# Altium footprint library 无刷电调_CH32V203_V1.0.0.PcbLib: 19 footprints (part 1 of 2)
Each footprint in its own frame and in the unit in brackets; x right, y up, seen from the top. Pads: shape width x height; smd on the part's side, far side on the other; paste and mask are expansions set on the pad; w line width, h text height; cw(c..) or ccw(c..) is an arc to the next point about the centre after c.
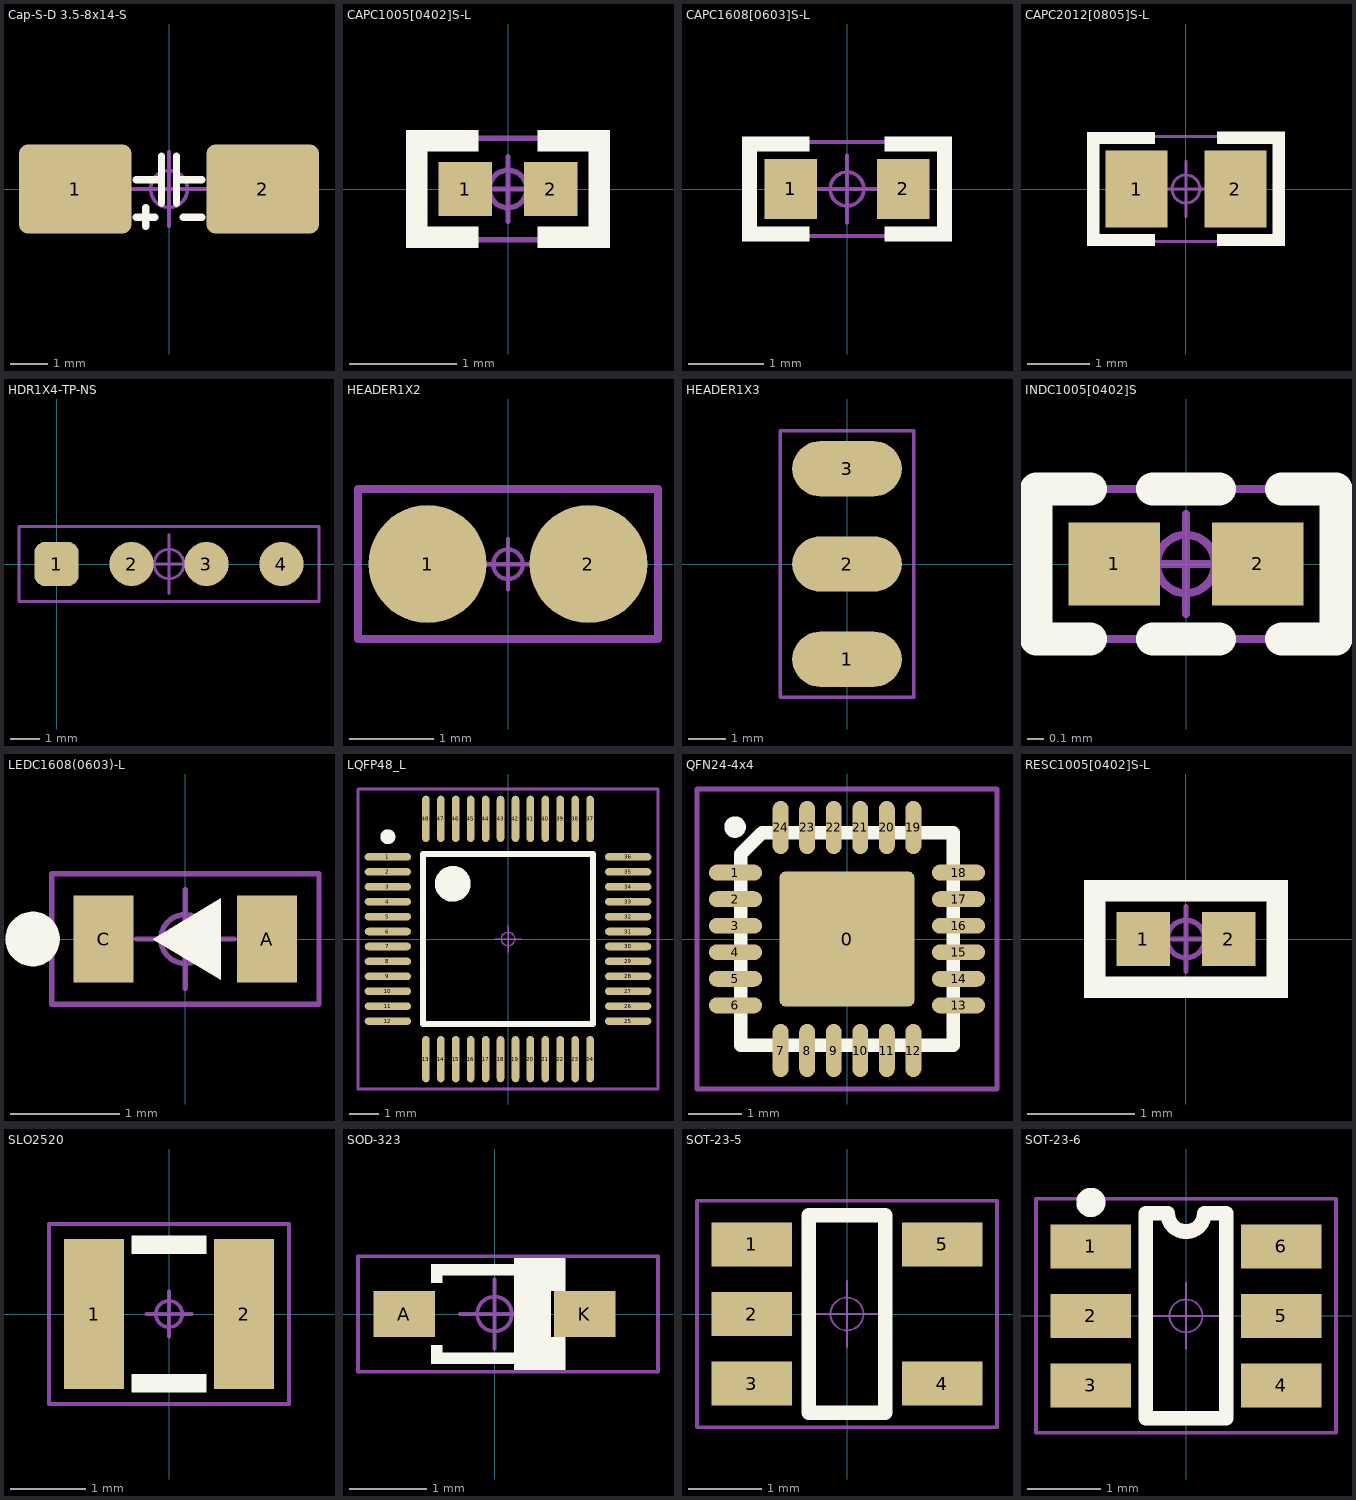
[diagram p0: the footprints below, top view; thin cyan lines are the x and y axes]

## Cap-S-D 3.5-8x14-S [mil] "固态直插 3.5mm间距 8x14mm 侧着焊在板边"
height 62.99
pads (2):
  rrect20% 120x95 smd mask+1: 1(-100,0) 2(100,0)
Top Overlay:
  lines w7.87: -35,-30 -15,-30 ; -35,10 -8,10 ; -25,-40 -25,-20 ; -8,-15 -8,35 ; 8,-15 8,35 ; 8,10 35,10 ; 15,-30 35,-30
Top Designator:
  text ".Designator" at -88.63,-8.9 h39.37
Top Component Center:
  circle w3.94: c0,0 r19.68
  lines w3.94: -39.37,0 39.37,0 ; 0,-39.37 0,39.37

## CAPC1005[0402]S-L [mm] "0402贴片电容 有丝印 2脚 1.00x0.50mm IPC高密度"
height 0.6
pads (2):
  rect 0.5x0.5 smd: 1(-0.4,0) 2(0.4,0)
Top Overlay:
  rectangle: -0.95,-0.55 -0.275,-0.35
  region: 0.95,-0.55 0.95,0.55 0.75,0.55 0.75,-0.55
  region: 0.95,0.55 0.275,0.55 0.275,0.35 0.95,0.35
  region: 0.95,-0.35 0.275,-0.35 0.275,-0.55 0.95,-0.55
  region: -0.95,0.55 -0.95,-0.55 -0.75,-0.55 -0.75,0.55
  rectangle: -0.95,0.35 -0.275,0.55
Top Designator:
  text ".Designator" at -2.251,-0.226 h1
Top Component Outline:
  rectangle: -0.9,-0.5 -0.85,0.5
  region: 0.9,0.45 0.9,0.5 -0.9,0.5 -0.9,0.45
  region: 0.9,0.5 0.85,0.5 0.85,-0.5 0.9,-0.5
  region: -0.9,-0.45 -0.9,-0.5 0.9,-0.5 0.9,-0.45
Top Component Center:
  circle w0.05: c0,0 r0.175
  lines w0.05: -0.3,0 0.3,0 ; 0,-0.3 0,0.3
3D body "Capacitor 0402.SLDPRT": height 0.5, standoff 0, extent -0.5,-0.25 0.5,0.25

## CAPC1608[0603]S-L [mm] "0603贴片电容 有丝印 2脚 1.60x0.80mm IPC高密度"
height 0.85
pads (2):
  rect 0.7x0.8 smd: 1(-0.75,0) 2(0.75,0)
Top Overlay:
  rectangle: -1.4,0.5 -0.5,0.7
  region: -1.4,0.7 -1.4,-0.7 -1.2,-0.7 -1.2,0.7
  rectangle: -1.4,-0.7 -0.5,-0.5
  region: 1.4,-0.5 0.5,-0.5 0.5,-0.7 1.4,-0.7
  region: 1.4,-0.7 1.4,0.7 1.2,0.7 1.2,-0.7
  region: 1.4,0.7 0.5,0.7 0.5,0.5 1.4,0.5
Top Designator:
  text ".Designator" at 2.251,0.226 h1
Top Component Outline:
  rectangle: -1.35,-0.65 -1.3,0.65
  region: 1.35,0.6 1.35,0.65 -1.35,0.65 -1.35,0.6
  region: 1.35,0.65 1.3,0.65 1.3,-0.65 1.35,-0.65
  region: -1.35,-0.6 -1.35,-0.65 1.35,-0.65 1.35,-0.6
Top Component Center:
  circle w0.05: c0,0 r0.225
  lines w0.05: -0.45,0 0.45,0 ; 0,-0.45 0,0.45
3D body: height 0.79, standoff 0, extent -0.8,-0.406 -0.45,0.406
3D body: height 0.79, standoff 0, extent 0.45,-0.406 0.8,0.407
3D body: height 0.79, standoff 0, extent -0.45,-0.406 0.45,0.406

## CAPC2012[0805]S-L [mm] "0805贴片电容 有丝印 2脚 2.00x1.20mm IPC高密度"
height 1.1
pads (2):
  rect 1x1.25 smd: 1(-0.8,0) 2(0.8,0)
Top Overlay:
  region: 1.6,-0.725 0.5,-0.725 0.5,-0.925 1.6,-0.925
  region: 1.6,-0.925 1.6,0.925 1.4,0.925 1.4,-0.925
  region: 1.6,0.927 0.5,0.927 0.5,0.727 1.6,0.727
  rectangle: -1.6,0.725 -0.5,0.925
  region: -1.6,0.925 -1.6,-0.925 -1.4,-0.925 -1.4,0.925
  rectangle: -1.6,-0.925 -0.5,-0.725
Top Designator:
  text ".Designator" at -2.251,-0.226 h1
Top Component Outline:
  rectangle: -1.55,-0.875 -1.5,0.875
  region: 1.55,0.825 1.55,0.875 -1.55,0.875 -1.55,0.825
  region: 1.55,0.875 1.5,0.875 1.5,-0.875 1.55,-0.875
  region: -1.55,-0.825 -1.55,-0.875 1.55,-0.875 1.55,-0.825
Top Component Center:
  circle w0.05: c0,0 r0.225
  lines w0.05: -0.45,0 0.45,0 ; 0,-0.45 0,0.45
3D body "capacitor_rnd1500805b106k6r3.stp": height 1.25, standoff 0, extent -1,-0.627 1,0.623

## HDR1X4-TP-NS [mm] "2.54mm间距,表面焊盘 无丝印"
height 1.6
pads (4):
  rrect50% 1.5x1.5 smd: 1(0,0)
  round 1.5 smd: 2(2.54,0) 3(5.08,0) 4(7.62,0)
Top Designator:
  text ".Designator" at 6.061,0.226 h1
Top Component Outline:
  lines w0.1: -1.27,-1.27 8.89,-1.27 8.89,1.27 -1.27,1.27 -1.27,-1.27
Top Component Center:
  circle w0.1: c3.81,0 r0.5
  lines w0.1: 2.81,0 4.81,0 ; 3.81,-1 3.81,1

## HEADER1X2 [mil] "贴片焊盘"
height 62.99
pads (2):
  round 55 smd: 1(-37.5,0) 2(37.5,0)
Top Designator:
  text ".Designator" at -88.74,-8.9 h39.37
Top Component Outline:
  lines w3.94: -70,-35 -70,35 70,35 70,-35 -70,-35
Top Component Center:
  circle w1.97: c0,-0.11 r6.89
  lines w1.97: -11.81,-0.11 11.81,-0.11 ; 0,-11.92 0,11.7

## HEADER1X3 [mil] "表贴焊盘 2.54mm"
pads (3):
  oval 115x58 smd: 1(0,-100) 2(0,0) 3(0,100)
Top Designator:
  text ".Designator" at 88.63,8.9 h39.37
Top Component Outline:
  lines w3.94: -70,-140 70,-140 70,140 -70,140 -70,-140
Top Component Center:
  circle w1.97: c0,0 r6.89
  lines w1.97: -11.81,0 11.81,0 ; 0,-11.81 0,11.81

## INDC1005[0402]S [mm] "Chip Inductor, 2-Leads, Body 1.00x0.50mm, IPC Medium Density"
height 0.6
pads (2):
  rect 0.55x0.5 smd: 1(-0.43,0) 2(0.43,0)
Top Overlay:
  lines w0.2: -0.575,-0.45 -0.9,-0.45 -0.9,0.45 -0.575,0.45 ; -0.2,-0.45 0.2,-0.45 ; -0.2,0.45 0.2,0.45 ; 0.575,-0.45 0.9,-0.45 0.9,0.45 0.575,0.45
Top Designator:
  text ".Designator" at 2.251,0.226 h1
Top Component Outline:
  lines w0.05: -0.9,-0.45 0.9,-0.45 0.9,0.45 -0.9,0.45 -0.9,-0.45
Top Component Center:
  circle w0.05: c0,0 r0.175
  lines w0.05: -0.3,0 0.3,0 ; 0,-0.3 0,0.3
3D body: height 0.49, standoff 0, extent -0.3,-0.25 0.3,0.25
3D body: height 0.5, standoff 0, extent -0.5,-0.25 -0.231,0.25
3D body: height 0.5, standoff 0, extent 0.231,-0.25 0.5,0.25

## LEDC1608(0603)-L [mm] "LED,Chip;1.60mm L X 0.80mm W X 0.80mm H"
height 0.8
pads (2):
  rect 0.55x0.8 smd: A(0.75,0) C(-0.75,0)
Top Overlay:
  circle w0.25: c-1.4,0 r0.125
  region: -0.3,0 0.325,0.375 0.325,-0.375
Top Designator:
  text ".Designator" at 2.051,0.226 h1
Top Component Outline:
  lines w0.05: -1.225,-0.6 -1.225,0.6 1.225,0.6 1.225,-0.6 -1.225,-0.6
Top Component Center:
  circle w0.05: c0,0 r0.225
  lines w0.05: -0.45,0 0.45,0 ; 0,-0.45 0,0.45
3D body: height 0.64, standoff 0, extent -0.559,-0.4 0.559,0.4
3D body "0603 (1608) LED Base (Separate Lens).STEP": height 0.64, standoff 0, extent -0.8,-0.4 0.8,0.4

## LQFP48_L [mm] "Thin QFP, 48-Leads, Body 7x7mm, Pitch 0.5mm, IPC High Density"
height 1.6
pads (48):
  oval 1.55x0.254 smd: 1(-4.025,2.75) 2(-4.025,2.25) 3(-4.025,1.75) 4(-4.025,1.25) 5(-4.025,0.75) 6(-4.025,0.25) 7(-4.025,-0.25) 8(-4.025,-0.75) 9(-4.025,-1.25) 10(-4.025,-1.75) 11(-4.025,-2.25) 12(-4.025,-2.75) 25(4.025,-2.75) 26(4.025,-2.25) 27(4.025,-1.75) 28(4.025,-1.25) 29(4.025,-0.75) 30(4.025,-0.25) 31(4.025,0.25) 32(4.025,0.75) 33(4.025,1.25) 34(4.025,1.75) 35(4.025,2.25) 36(4.025,2.75)
  oval 0.254x1.55 smd: 13(-2.75,-4.025) 14(-2.25,-4.025) 15(-1.75,-4.025) 16(-1.25,-4.025) 17(-0.75,-4.025) 18(-0.25,-4.025) 19(0.25,-4.025) 20(0.75,-4.025) 21(1.25,-4.025) 22(1.75,-4.025) 23(2.25,-4.025) 24(2.75,-4.025) 37(2.75,4.025) 38(2.25,4.025) 39(1.75,4.025) 40(1.25,4.025) 41(0.75,4.025) 42(0.25,4.025) 43(-0.25,4.025) 44(-0.75,4.025) 45(-1.25,4.025) 46(-1.75,4.025) 47(-2.25,4.025) 48(-2.75,4.025)
Top Overlay:
  circle w0.6: c-1.85,1.85 r0.3
  circle w0.25: c-4.025,3.425 r0.125
  lines w0.2: -2.85,-2.85 2.85,-2.85 2.85,2.85 -2.85,2.85 -2.85,-2.85
Top Designator:
  text ".Designator" at -2.251,-0.226 h1
Top Component Outline:
  lines w0.1: -5.025,-5.025 5.025,-5.025 5.025,5.025 -5.025,5.025 -5.025,-5.025
Top Component Center:
  circle w0.05: c0,0 r0.225
  lines w0.05: -0.45,0 0.45,0 ; 0,-0.45 0,0.45
3D body "User Library-LQFP48_Grid_0_5.STEP": height 1.6, standoff 0, extent -4.5,-4.5 4.5,4.5

## QFN24-4x4 [mm]
height 1.6
pads (25):
  rrect10% 2.55x2.55 smd: 0(0,0)
  oval 1x0.3 smd: 1(-2.1,1.25) 2(-2.1,0.75) 3(-2.1,0.25) 4(-2.1,-0.25) 5(-2.1,-0.75) 6(-2.1,-1.25) 13(2.1,-1.25) 14(2.1,-0.75) 15(2.1,-0.25) 16(2.1,0.25) 17(2.1,0.75) 18(2.1,1.25)
  oval 0.3x1 smd: 7(-1.25,-2.1) 8(-0.75,-2.1) 9(-0.25,-2.1) 10(0.25,-2.1) 11(0.75,-2.1) 12(1.25,-2.1) 19(1.25,2.1) 20(0.75,2.1) 21(0.25,2.1) 22(-0.25,2.1) 23(-0.75,2.1) 24(-1.25,2.1)
Top Overlay:
  circle w0.203: c-2.108,2.108 r0.102
  lines w0.254: -2,-2 2,-2 2,2 -1.6,2 -2,1.6 -2,-2
Top Designator:
  text ".Designator" at -2.251,-0.226 h1
Top Component Outline:
  lines w0.1: -2.825,-2.825 2.825,-2.825 2.825,2.825 -2.825,2.825 -2.825,-2.825
Top Component Center:
  circle w0.05: c0,0 r0.225
  lines w0.05: -0.45,0 0.45,0 ; 0,-0.45 0,0.45
3D body "User Library-QFN 24 4x4.step": height 0.9, standoff 0, extent -2.002,-2.002 2.002,2.002

## RESC1005[0402]S-L [mm] "0402贴片电阻 有丝印 2脚 1.00x0.50mm IPC高密度"
height 0.6
pads (2):
  rect 0.5x0.5 smd: 1(-0.4,0) 2(0.4,0)
Top Overlay:
  rectangle: -0.953,0.35 0.947,0.55
  region: 0.947,-0.35 -0.953,-0.35 -0.953,-0.55 0.947,-0.55
  region: 0.75,0.55 0.75,-0.55 0.95,-0.55 0.95,0.55
  region: -0.75,-0.55 -0.75,0.55 -0.95,0.55 -0.95,-0.55
Top Designator:
  text ".Designator" at -2.251,-0.226 h1
Top Component Outline:
  rectangle: -0.9,-0.5 -0.85,0.5
  region: 0.9,0.45 0.9,0.5 -0.9,0.5 -0.9,0.45
  region: 0.9,0.5 0.85,0.5 0.85,-0.5 0.9,-0.5
  region: -0.9,-0.45 -0.9,-0.5 0.9,-0.5 0.9,-0.45
Top Component Center:
  circle w0.05: c0,0 r0.175
  lines w0.05: -0.3,0 0.3,0 ; 0,-0.3 0,0.3
3D body "R0402.STEP": height 0.35, standoff 0, extent -0.5,-0.25 0.5,0.25

## SLO2520 [mm]
height 1.6
pads (2):
  rect 0.8x2 smd: 1(-1,0) 2(1,0)
Top Overlay:
  region: 0.5,-0.8 -0.5,-0.8 -0.5,-1.05 0.5,-1.05
  rectangle: -0.5,0.8 0.5,1.05
Top Designator:
  text ".Designator" at 2.251,0.226 h1
Top Component Outline:
  lines w0.05: -1.6,-1.2 -1.6,1.2 1.6,1.2 1.6,-1.2 -1.6,-1.2
Top Component Center:
  circle w0.05: c0,0 r0.175
  lines w0.05: -0.3,0 0.3,0 ; 0,-0.3 0,0.3
3D body: height 1.1, standoff 0, extent -1.25,-0.875 -1,0.875
3D body: height 1.1, standoff 0, extent 1,-0.875 1.25,0.875
3D body: height 1.2, standoff 0, extent -1.2,-1 1.2,1

## SOD-323 [mm] "SOD Diode;1.65mm W X 1.24mm L X 1.16mm H body"
height 1.16
pads (2):
  rect 0.8x0.6 smd: A(-1.175,0) K(1.175,0)
Top Overlay:
  rectangle: -0.825,-0.65 -0.675,-0.4
  rectangle: -0.825,-0.652 0.65,-0.502
  rectangle: -0.825,0.4 -0.675,0.65
  rectangle: -0.825,0.498 0.65,0.648
  rectangle: 0.254,-0.725 0.737,0.725
  rectangle: 0.575,0.3 0.925,0.725
  rectangle: 0.575,-0.725 0.925,-0.3
Top Designator:
  text ".Designator" at -2.076,-0.226 h1
Top Component Outline:
  lines w0.05: -1.775,-0.75 2.125,-0.75 2.125,0.75 -1.775,0.75 -1.775,-0.75
Top Component Center:
  circle w0.05: c0,0 r0.225
  lines w0.05: -0.45,0 0.45,0 ; 0,-0.45 0,0.45
3D body "SOD-323.STEP": height 1, standoff 0, extent -1.3,-0.65 1.3,0.65

## SOT-23-5 [mm] "SOT23, 5-Leads, Body 2.92x2.79mm, Pitch 0.95mm, IPC Medium Density"
height 1.42
pads (5):
  rect 1.1x0.6 smd: 1(-1.3,0.95) 2(-1.3,0) 3(-1.3,-0.95) 4(1.3,-0.95) 5(1.3,0.95)
Top Overlay:
  lines w0.2: -0.525,-1.35 -0.525,1.35 0.525,1.35 0.525,-1.35 -0.525,-1.35
Top Designator:
  text ".Designator" at -2.251,-0.226 h1
Top Component Outline:
  lines w0.05: -2.05,-1.55 -2.05,1.55 2.05,1.55 2.05,-1.55 -2.05,-1.55
Top Component Center:
  circle w0.025: c0,0 r0.225
  lines w0.025: -0.45,0 0.45,0 ; 0,-0.45 0,0.45
3D body "SOT-5.stp": height 1.08, standoff -0.01, extent -1.423,-1.461 1.422,1.46

## SOT-23-6 [mm] "SOT23, 6-Leads, Body 2.90x2.80mm, Pitch 0.95mm, IPC Medium Density"
height 1.45
pads (6):
  rect 1.1x0.6 smd: 1(-1.3,0.95) 2(-1.3,0) 3(-1.3,-0.95) 4(1.3,-0.95) 5(1.3,0) 6(1.3,0.95)
Top Overlay:
  circle w0.25: c-1.3,1.55 r0.075
  lines w0.2: -0.25,1.4 -0.55,1.4 -0.55,-1.4 0.55,-1.4 0.55,1.4 0.25,1.4
  lines w0.203: -0.25,1.4 ccw(c0,1.4) 0.25,1.4
Top Designator:
  text ".Designator" at 2.251,0.289 h1
Top Component Outline:
  lines w0.05: -2.05,-1.6 -2.05,1.6 2.05,1.6 2.05,-1.6 -2.05,-1.6
Top Component Center:
  circle w0.025: c0,0 r0.225
  lines w0.025: -0.45,0 0.45,0 ; 0,-0.45 0,0.45
3D body "SOT23-6.STEP": height 1.55, standoff 0, extent -1.504,-1.5 1.504,1.5